# EAGLE library part 1051620001 (library Molex_micro_SD)
MOLEX 1051620001 PCB Surface Mount microSD card socket
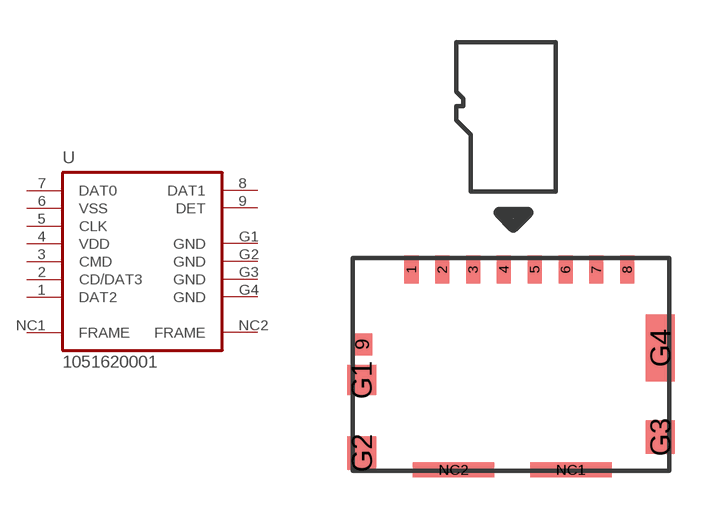
[diagram p0: symbol with the pads of 1051620001_SMT; footprint 1051620001_SMT]

Designator prefix -

## 1051620001A  [1051620001_SMT]
1  DAT2
2  CD/DAT3
3  CMD
4  VDD
5  CLK
6  VSS
7  DAT0
8  DAT1
9  DET
G1  GND
G2  GND
G3  GND
G4  GND
NC1  FRAME
NC2  FRAME

## Footprint 1051620001_SMT (pad centres in mm)
smd 0.5 x 1: 1 -3.632,3.818; 2 -2.532,3.818; 3 -1.432,3.818; 4 -0.332,3.818; 5 0.768,3.818; 6 1.868,3.818; 7 2.968,3.813; 8 4.068,3.818
smd 0.72 x 0.78: 9 -5.392,1.138
smd 1.05 x 1.08: G1 -5.407,-0.132
smd 1.05 x 1.2: G2 -5.407,-2.742; G3 5.243,-2.172
smd 1.05 x 2.39: G4 5.243,1.013
smd 2.91 x 0.55: NC1 2.063,-3.342; NC2 -2.127,-3.342